# Altium schematic symbol library PRJ_LIB_LTC2983_Card.SchLib: 25 symbols
Pins are listed as number, name and electrical type; pins without a type are passive.

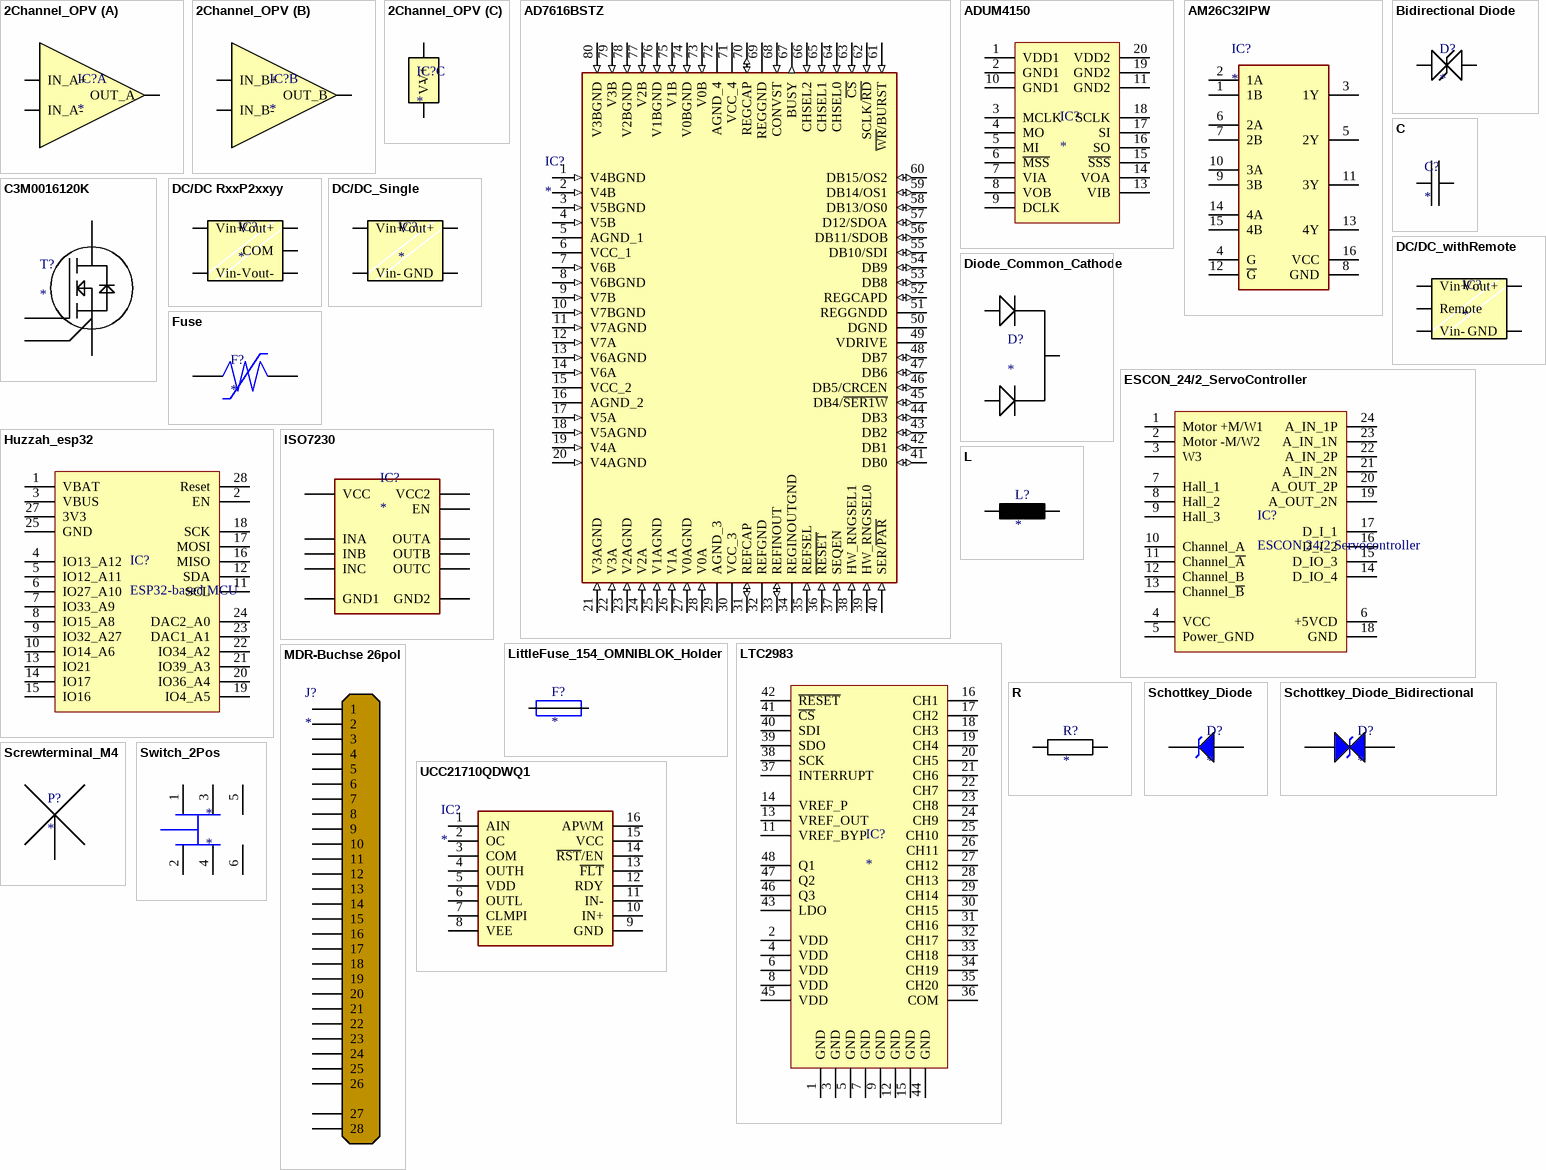
[diagram p0: symbols 2Channel_OPV to UCC21710QDWQ1]

## 2Channel_OPV
designator IC?
footprint VSSOP8
part A pins: 1 OUT_A, 2 IN_A-, 3 IN_A+
part B pins: 5 IN_B+, 6 IN_B-, 7 OUT_B
part C pins: 4 V-, 8 V+

## AD7616BSTZ
designator IC?
Integrated Circuit; Manufacturer_Name: Analog Devices; Manufacturer_Part_Number: AD7616BSTZ; Datasheet Link: https://componentsearchengine.com/Datasheets/1/AD7616BSTZ.pdf; Height: 1.6mm; Arrow Part Number: AD7616BSTZ; Arrow Price/Stock: https://www.arrow.com/en/products/ad7616bstz/analog-devices; Mouser Part Number: 584-AD7616BSTZ; Mouser Price/Stock: https://www.mouser.co.uk/ProductDetail/Analog-Devices/AD7616BSTZ?qs=k%252BwXAfPrzCkDEZpCVNfV7w%3D%3D
footprint QFP65P1600X1600X160-80N
pins: 1 V4BGND (in), 2 V4B (in), 3 V5BGND (in), 4 V5B (in), 5 AGND_1 (power), 6 VCC_1 (power), 7 V6B (in), 8 V6BGND (in), 9 V7B (in), 10 V7BGND (in), 11 V7AGND (in), 12 V7A (in), 13 V6AGND (in), 14 V6A (in), 15 VCC_2 (power), 16 AGND_2 (power), 17 V5A (in), 18 V5AGND (in), 19 V4A (in), 20 V4AGND (in), 21 V3AGND (in), 22 V3A (in), 23 V2AGND (in), 24 V2A (in), 25 V1AGND (in), 26 V1A (in), 27 V0AGND (in), 28 V0A (in), 29 AGND_3 (power), 30 VCC_3 (power), 31 REFCAP (io), 32 REFGND (power), 33 REFINOUT (io), 34 REGINOUTGND (power), 35 REFSEL (in), 36 ~{RESET} (in), 37 SEQEN (in), 38 HW_RNGSEL1 (in), 39 HW_RNGSEL0 (in), 40 SER/~{PAR} (in), 41 DB0 (io), 42 DB1 (io), 43 DB2 (io), 44 DB3 (io), 45 DB4/~{SER1W} (io), 46 DB5/CRCEN (io), 47 DB6 (io), 48 DB7 (io), 49 VDRIVE (power), 50 DGND (power), 51 REGGNDD (power), 52 REGCAPD (io), 53 DB8 (io), 54 DB9 (io), 55 DB10/SDI (io), 56 DB11/SDOB (io), 57 D12/SDOA (io), 58 DB13/OS0 (io), 59 DB14/OS1 (io), 60 DB15/OS2 (io), 61 ~{WR}/BURST (in), 62 SCLK/~{RD} (in), 63 ~{CS} (in), 64 CHSEL0 (in), 65 CHSEL1 (in), 66 CHSEL2 (in), 67 BUSY (out), 68 CONVST (in), 69 REGGND (power), 70 REGCAP (io), 71 VCC_4 (power), 72 AGND_4 (power), 73 V0B (in), 74 V0BGND (in), 75 V1B (in), 76 V1BGND (in), 77 V2B (in), 78 V2BGND (in), 79 V3B (in), 80 V3BGND (in)

## ADUM4150
designator IC?
footprint SOIC-20-ADUM4150
pins: 1 VDD1, 2 GND1, 3 MCLK, 4 MO, 5 MI, 6 ~{MSS}, 7 VIA, 8 VOB, 9 DCLK, 10 GND1, 11 GND2, 13 VIB, 14 VOA, 15 ~{SSS}, 16 SO, 17 SI, 18 SCLK, 19 GND2, 20 VDD2

## AM26C32IPW
designator IC?
Integrated Circuit; Manufacturer_Name: Texas Instruments; Manufacturer_Part_Number: AM26C32IPW; Datasheet Link: http://www.ti.com/general/docs/lit/getliterature.tsp?genericPartNumber=AM26C32&&fileType=pdf; Height: 1.2mm; Arrow Part Number: AM26C32IPW; Arrow Price/Stock: https://www.arrow.com/en/products/am26c32ipw/texas-instruments; Mouser Part Number: 595-AM26C32IPW; Mouser Price/Stock: https://www.mouser.com/Search/Refine.aspx?Keyword=595-AM26C32IPW
footprint SOP65P640X120-16N
pins: 1 1B, 2 1A, 3 1Y, 4 G, 5 2Y, 6 2A, 7 2B, 8 GND, 9 3B, 10 3A, 11 3Y, 12 ~{G}, 13 4Y, 14 4A, 15 4B, 16 VCC

## Bidirectional Diode
designator D?
footprint DO-214AC
pins: A, K

## C
designator C?
footprint RLC_0402
footprint RLC_0603
footprint RLC_0805
footprint RLC_1206
pins: 1, 2

## C3M0016120K
designator T?
footprint TO-247-4
footprint TO-247-4_NO3D
pins: 1 Drain, 2 Source, 3 Gate_S, 4 Gate

## DC/DC RxxP2xxyy
designator IC?
footprint SIP7 DCDC
footprint SIP7 DCDC_RxxP2xxyy
pins: 1 Vin+, 2 Vin-, 5 Vout-, 6 COM, 7 Vout+

## DC/DC_Single
designator IC?
footprint SIP7_DCDC
footprint SIP4DCDC; pin to pad 1>2 2>1 4>3 6>4
pins: 1 Vin+, 2 Vin-, 4 GND, 6 Vout+

## DC/DC_withRemote
designator IC?
footprint SIP8_DCDC
pins: 1 Vin-, 2 Vin+, 3 Remote, 6 Vout+, 7 GND

## Diode_Common_Cathode
designator D?
footprint SOT-23
pins: 1, 2, 3

## ESCON_24/2_ServoController
designator IC?, comment ESCON 24/2 Servocontroller
footprint ESCON_24/2_Servocontroller
pins: 1 Motor +M/W1, 2 Motor -M/W2, 3 W3, 4 VCC, 5 Power_GND, 6 +5VCD, 7 Hall_1, 8 Hall_2, 9 Hall_3, 10 Channel_A, 11 Channel_~{A}, 12 Channel_B, 13 Channel_~{B}, 14 D_IO_4, 15 D_IO_3, 16 D_I_2, 17 D_I_1, 18 GND, 19 A_OUT_2N, 20 A_OUT_2P, 21 A_IN_2N, 22 A_IN_2P, 23 A_IN_1N, 24 A_IN_1P

## Fuse
designator F?
footprint RLC_1812
pins: 1, 2

## Huzzah_esp32
designator IC?, comment ESP32-based MCU
footprint Huzzah_ESP32MCU
pins: 1 VBAT, 2 EN, 3 VBUS, 4 IO13_A12, 5 IO12_A11, 6 IO27_A10, 7 IO33_A9, 8 IO15_A8, 9 IO32_A27, 10 IO14_A6, 11 SCL, 12 SDA, 13 IO21, 14 IO17, 15 IO16, 16 MISO, 17 MOSI, 18 SCK, 19 IO4_A5, 20 IO36_A4, 21 IO39_A3, 22 IO34_A2, 23 DAC1_A1, 24 DAC2_A0, 25 GND, 27 3V3, 28 Reset

## ISO7230
designator IC?
footprint SOIC-16; pin to pad 2>2+8 15>15+9
pins: 1 VCC, 2 GND1, 3 INA, 4 INB, 5 INC, 10 EN, 12 OUTC, 13 OUTB, 14 OUTA, 15 GND2, 16 VCC2

## L
designator L?
footprint RLC_0402
footprint RLC_0603
footprint RLC_0805
footprint RLC_1206
pins: 1, 2

## LittleFuse_154_OMNIBLOK_Holder
designator F?
footprint Littlefuse_154_OMNIBLOK_Holder
pins: 1, 2

## LTC2983
designator IC?
footprint 48_LGFP(7x7)
pins: 1 GND, 2 VDD, 3 GND, 4 VDD, 5 GND, 6 VDD, 7 GND, 8 VDD, 9 GND, 11 VREF_BYP, 12 GND, 13 VREF_OUT, 14 VREF_P, 15 GND, 16 CH1, 17 CH2, 18 CH3, 19 CH4, 20 CH5, 21 CH6, 22 CH7, 23 CH8, 24 CH9, 25 CH10, 26 CH11, 27 CH12, 28 CH13, 29 CH14, 30 CH15, 31 CH16, 32 CH17, 33 CH18, 34 CH19, 35 CH20, 36 COM, 37 INTERRUPT, 38 SCK, 39 SDO, 40 SDI, 41 ~{CS}, 42 ~{RESET}, 43 LDO, 44 GND, 45 VDD, 46 Q3, 47 Q2, 48 Q1

## MDR-Buchse 26pol
designator J?
footprint MDR-Buchse 26Pol
pins: 1, 2, 3, 4, 5, 6, 7, 8, 9, 10, 11, 12, 13, 14, 15, 16, 17, 18, 19, 20, 21, 22, 23, 24, 25, 26, 27, 28

## R
designator R?
footprint Resistor_4527
footprint RLC_0402
footprint RLC_0603
footprint RLC_0805
footprint RLC_1206
pins: 1, 2

## Schottkey_Diode
designator D?
footprint DO-214A4
pins: 1, 2

## Schottkey_Diode_Bidirectional
designator D?
footprint DO-214A4
pins: 1, 2

## Screwterminal_M4
designator P?
Hersteller_Teilenr: 74651174R
footprint Screw_Terminal_M4
pins: 0

## Switch_2Pos
designator *
footprint Switch_2Pos
pins: 1, 2, 3, 4, 5, 6

## UCC21710QDWQ1
designator IC?
Integrated Circuit; Manufacturer_Name: Texas Instruments; Manufacturer_Part_Number: UCC21710QDWQ1; Datasheet Link: https://www.ti.com/lit/gpn/UCC21710-Q1; Height: 2.65mm; Mouser Part Number: 595-UCC21710QDWQ1; Mouser Price/Stock: https://www.mouser.co.uk/ProductDetail/Texas-Instruments/UCC21710QDWQ1?qs=9r4v7xj2LnlaOSIRYczbBw%3D%3D
footprint SOIC127P1030X265-16N
pins: 1 AIN, 2 OC, 3 COM, 4 OUTH, 5 VDD, 6 OUTL, 7 CLMPI, 8 VEE, 9 GND, 10 IN+, 11 IN-, 12 RDY, 13 ~{FLT}, 14 ~{RST}/EN, 15 VCC, 16 APWM